# Altium footprint library RESC1508X55N.PcbLib: 1 footprints
Each footprint in its own frame and in the unit in brackets; x right, y up, seen from the top. Pads: shape width x height; smd on the part's side, far side on the other; paste and mask are expansions set on the pad; w line width, h text height; cw(c..) or ccw(c..) is an arc to the next point about the centre after c.
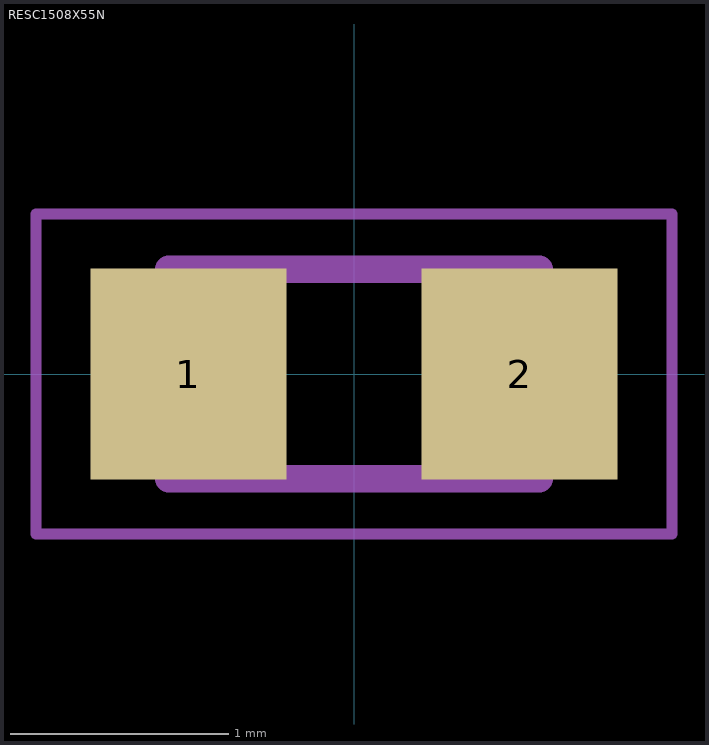
[diagram p0: the footprint, top view; thin cyan lines are the x and y axes]

## RESC1508X55N [mm]
pads (2):
  rect 0.9x0.97 smd: 1(-0.76,0) 2(0.76,0)
Mechanical 13:
  lines w0.127: -0.85,-0.48 -0.85,0.48 0.85,0.48 0.85,-0.48 -0.85,-0.48
Mechanical 15:
  lines w0.05: -1.46,-0.735 -1.46,0.735 1.46,0.735 1.46,-0.735 -1.46,-0.735
3D body "RMCF0603JT10K0.STEP": height 0.55, standoff 0, extent -0.775,-0.4 0.775,0.4